# Altium schematic symbol library C.SCHLIB: 3 symbols
Pins are listed as number, name and electrical type; pins without a type are passive.

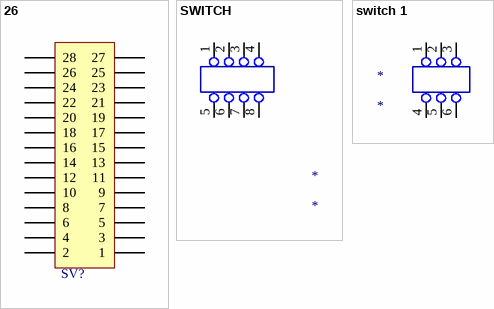
[diagram p0: symbols 26 to switch 1]

## 26
designator SV?, comment SV1  (value not drawn)
footprint 26
pins: 1, 2, 3, 4, 5, 6, 7, 8, 9, 10, 11, 12, 13, 14, 15, 16, 17, 18, 19, 20, 21, 22, 23, 24, 25, 26, 27, 28

## SWITCH
designator *
pins: 1, 2, 3, 4, 5, 6, 7, 8

## switch 1
designator *
pins: 1, 2, 3, 4, 5, 6